# Altium footprint library Cap_Seiko_CPH3225A_eec_0.PcbLib: 1 footprints
Each footprint in its own frame and in the unit in brackets; x right, y up, seen from the top. Pads: shape width x height; smd on the part's side, far side on the other; paste and mask are expansions set on the pad; w line width, h text height; cw(c..) or ccw(c..) is an arc to the next point about the centre after c.
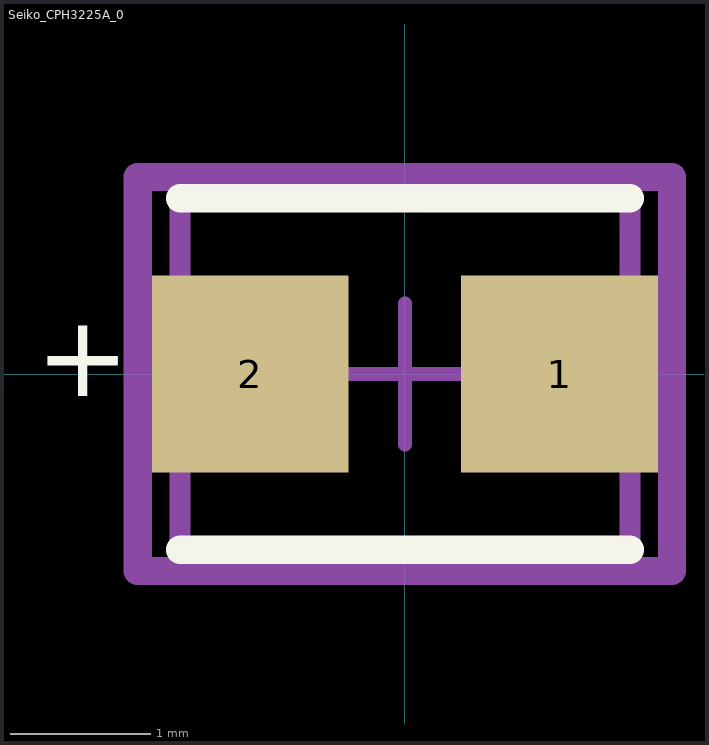
[diagram p0: the footprint, top view; thin cyan lines are the x and y axes]

## Seiko_CPH3225A_0 [mm]
pads (2):
  rect 1.4x1.4 smd paste+0 mask+0: 1(1.1,0) 2(-1.1,0)
Top Overlay:
  lines w0.2: -1.6,-1.25 1.6,-1.25 ; -1.6,1.25 1.6,1.25
  text "+" at -2.625,-0.35 h1
Mechanical 10:
  lines w0.2: -1.9,-1.4 1.9,-1.4 1.9,1.4 -1.9,1.4 -1.9,-1.4
  text ".Designator" at 0,0 h1
Mechanical 12:
  lines w0.15: -1.6,-1.25 1.6,-1.25 1.6,1.25 -1.6,1.25 -1.6,-1.25
Mechanical 15:
  lines w0.1: -0.5,0 0.5,0 ; 0,-0.5 0,0.5
  lines w0.2: -1.9,-1.4 1.9,-1.4 1.9,1.4 -1.9,1.4 -1.9,-1.4
3D body "3dmodel.step": height 0.25, standoff 0, extent -1.9,-1.4 1.9,1.4